# EAGLE library part EDGE-LIBRARY_10103594-0001LF (library Local Compute Module)
CONN RCPT USB2.0 MICRO B SMD R/A Manufacturer's datasheet <https://cdn.amphenol-icc.com/media/wysiwyg/files/drawing/10103594.pdf>
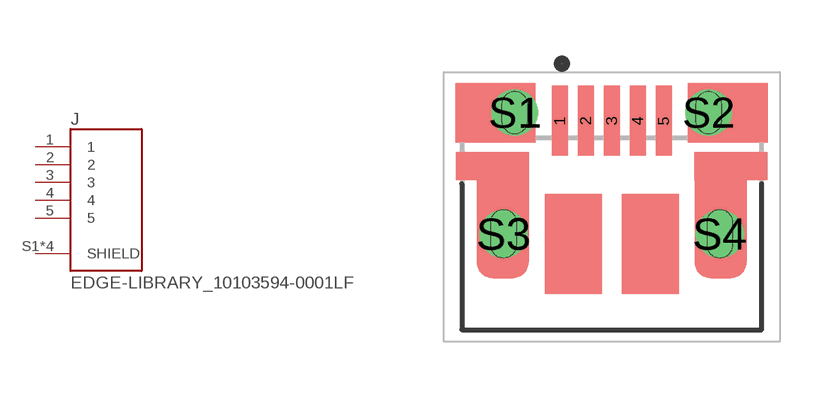
[diagram p7: symbol with the pads of EDGE-LIBRARY_10103594-0001LF; footprint EDGE-LIBRARY_10103594-0001LF]

Designator prefix J

## EDGE-LIBRARY_10103594-0001LF (DIGIKEY: 609-4050-2-ND; MANUFACTURE: Amphenol ICC (FCI); MPN: 10103594-0001LF)  [EDGE-LIBRARY_10103594-0001LF]
1  1  pas
2  2  pas
3  3  pas
4  4  pas
5  5  pas
S1  SHIELD  pas
S2  SHIELD  pas
S3  SHIELD  pas
S4  SHIELD  pas

## Footprint EDGE-LIBRARY_10103594-0001LF (pad centres in mm)
smd 0.4 x 1.75: 1 -1.3,2.825; 2 -0.65,2.825; 3 0,2.825; 4 0.65,2.825; 5 1.3,2.825
drill 0.65 pad 1.05: S1 -2.425,3.03; S2 2.425,3.03
drill 0.66 pad 1.2: S3 -2.705,0; S4 2.705,0